# EAGLE library part PINHEADER_1_6 (library Let'sMakeMyFabduino)
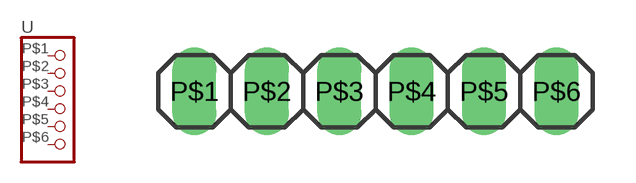
[diagram p4: symbol with the pads of PINHEADER_1_6; footprint PINHEADER_1_6]

Designator prefix -

## PINHEADER_1_6  [PINHEADER_1_6]
P$1  1  pas
P$2  2  pas
P$3  3  pas
P$4  4  pas
P$5  5  pas
P$6  6  pas

## Footprint PINHEADER_1_6 (pad centres in mm)
drill 1.03 pad 1.27 long: P$1 -6.35,0; P$2 -3.81,0; P$3 -1.27,0; P$4 1.27,0; P$5 3.81,0; P$6 6.35,0